# Altium schematic symbol library ESP32_Control_Board_Design.SchLib: 2 symbols
Pins are listed as number, name and electrical type; pins without a type are passive.

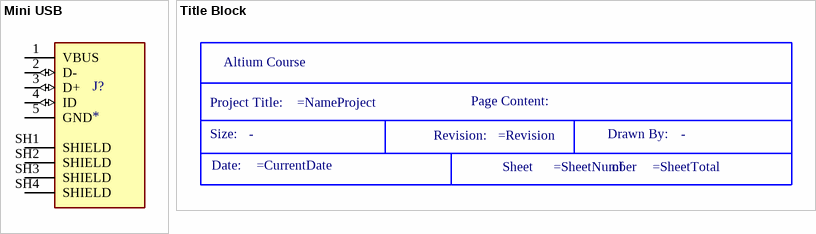
[diagram p0: symbols Mini USB to Title Block]

## Mini USB
designator J?
MINI USB 2.0- B Type Receptacle conn. Right Angle Surface Mount Type; MF: Amphenol ICC; MP: 10033526-N3212LF; SnapEDA_Link: https://www.snapeda.com/parts/10033526-N3212LF/Amphenol+FCI/view-part/?ref=snap; Package: None; Value: *; Check_prices: https://www.snapeda.com/parts/10033526-N3212LF/Amphenol+FCI/view-part/?ref=eda
footprint MiniUSB
pins: 1 VBUS (power), 2 D- (io), 3 D+ (io), 4 ID (io), 5 GND (power), SH1 SHIELD, SH2 SHIELD, SH3 SHIELD, SH4 SHIELD

## Title Block
designator *  (value not drawn)  (graphical)
Size: -; Drawn By: -
text: Altium Course; Project Title:; Page Content:; Size:; Drawn By:; Revision:; Date:; Sheet; of